# EAGLE library part ARDUINOMICRO (library ArduinoMicro)
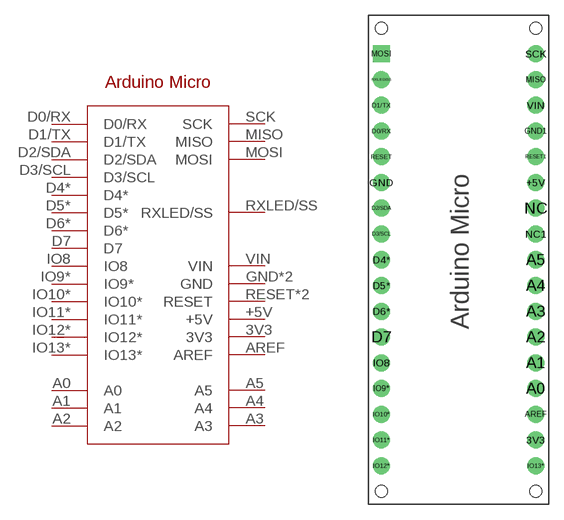
[diagram p0: symbol with the pads of ARDUINOMICRO; footprint ARDUINOMICRO]

Designator prefix -

## ARDUINOMICRO  [ARDUINOMICRO]
3V3  3V3
+5V  +5V
A0  A0
A1  A1
A2  A2
A3  A3
A4  A4
A5  A5
AREF  AREF
D0/RX  D0/RX
D1/TX  D1/TX
D2/SDA  D2/SDA
D3/SCL  D3/SCL
D4*  D4*
D5*  D5*
D6*  D6*
D7  D7
GND  GND
GND1  GND
IO8  IO8
IO9*  IO9*
IO10*  IO10*
IO11*  IO11*
IO12*  IO12*
IO13*  IO13*
MISO  MISO
MOSI  MOSI
RESET  RESET
RESET1  RESET
RXLED/SS  RXLED/SS
SCK  SCK
VIN  VIN

## Footprint ARDUINOMICRO (pad centres in mm)
drill 0.6 pad 1.676: 3V3 15.24,-38.1; +5V 15.24,-12.7; A0 15.24,-33.02; A1 15.24,-30.48; A2 15.24,-27.94; A3 15.24,-25.4; A4 15.24,-22.86; A5 15.24,-20.32; AREF 15.24,-35.56; D0/RX 0,-7.62; D1/TX 0,-5.08; D2/SDA 0,-15.24; D3/SCL 0,-17.78; D4* 0,-20.32; D5* 0,-22.86; D6* 0,-25.4; D7 0,-27.94; GND 0,-12.7; GND1 15.24,-7.62; IO8 0,-30.48; IO9* 0,-33.02; IO10* 0,-35.56; IO11* 0,-38.1; IO12* 0,-40.64; IO13* 15.24,-40.64; MISO 15.24,-2.54; NC 15.24,-15.24; NC1 15.24,-17.78; RESET 0,-10.16; RESET1 15.24,-10.16; RXLED/SS 0,-2.54; SCK 15.24,0; VIN 15.24,-5.08
drill 0.6 pad 1.676 square: MOSI 0,0
hole 1.2 at 0,2.54
hole 1.2 at 15.24,2.54
hole 1.2 at 0,-43.18
hole 1.2 at 15.24,-43.18